# EAGLE library part S13B-PH-* (library jst-ph)
Wire-to-Board 2.0mm pitch side mount connector Source: http://www.jst-mfg.com/product/pdf/jpn/PH.pdf http://www.jst-mfg.com/product/detail.php?series=199
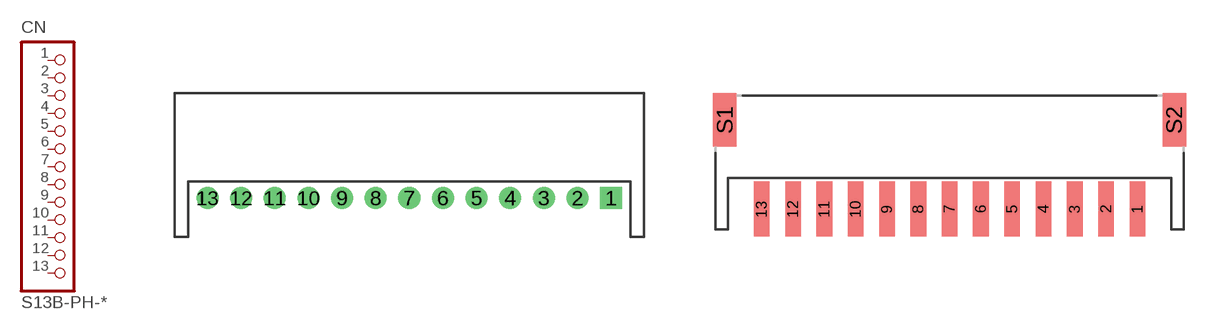
[diagram p18: symbol with the pads of S13B-PH-K-S; footprints S13B-PH-K-S, S13B-PH-SM4-TB]

Designator prefix CN

## S13B-PH-K-S  [S13B-PH-K-S]
1  1  pas
2  2  pas
3  3  pas
4  4  pas
5  5  pas
6  6  pas
7  7  pas
8  8  pas
9  9  pas
10  10  pas
11  11  pas
12  12  pas
13  13  pas

## S13B-PH-SM4-TB  [S13B-PH-SM4-TB]
Pads as for S13B-PH-K-S

## Footprint S13B-PH-K-S (pad centres in mm)
drill 0.8 square: 1 12,0
drill 0.8: 2 10,0; 3 8,0; 4 6,0; 5 4,0; 6 2,0; 7 0,0; 8 -2,0; 9 -4,0; 10 -6,0; 11 -8,0; 12 -10,0; 13 -12,0

## Footprint S13B-PH-SM4-TB (pad centres in mm)
smd 1 x 3.5: 1 12,-1; 2 10,-1; 3 8,-1; 4 6,-1; 5 4,-1; 6 2,-1; 7 0,-1; 8 -2,-1; 9 -4,-1; 10 -6,-1; 11 -8,-1; 12 -10,-1; 13 -12,-1
smd 1.5 x 3.4: S1 -14.35,4.7; S2 14.35,4.7